# Altium schematic symbol library IC_Interface.SchLib: 26 symbols
Pins are listed as number, name and electrical type; pins without a type are passive.

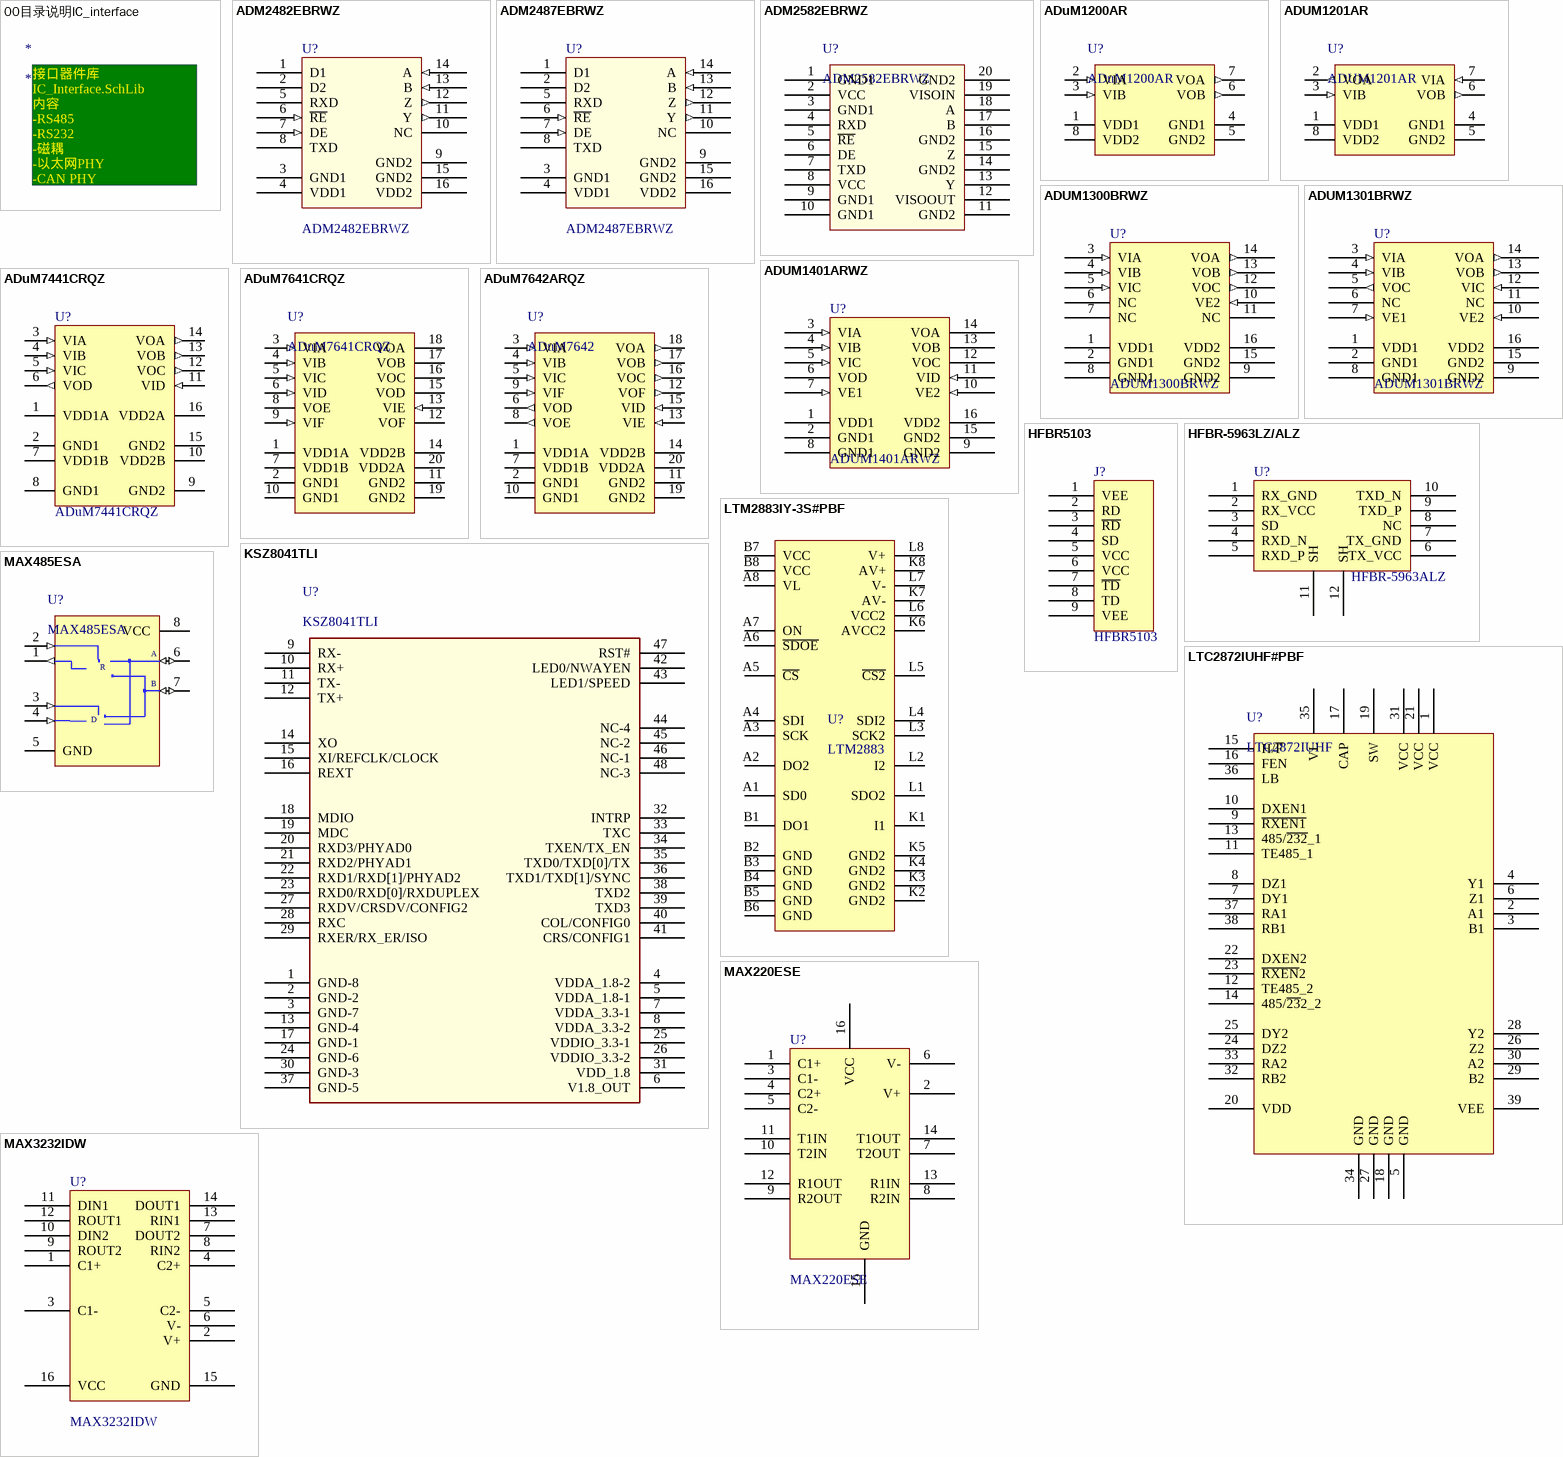
[diagram p0: symbols 00目录说明IC_interface to MAX3232IDW]

## 00目录说明IC_interface
designator *
text: 接口器件库 IC_Interface.SchLib / 内容 / -RS485 / -RS232 / -磁耦 / -以太网PHY / -CAN PHY /

## ADM2482EBRWZ
designator U?
RS485隔离收发器自带电源,速率16Mb; Manufacturer: ADI; Name: RS485收发器; Ordering NO.: ADM2482EBRWZ
footprint SO16/1.27_10.3*7.5 (16-Pin Wide Body Small Outline Integrated Circuit 1.27 mm Pitch, IPC Medium Density)
pins: 1 D1, 2 D2, 3 GND1 (power), 4 VDD1 (power), 5 RXD, 6 ~{RE} (in), 7 DE (in), 8 TXD, 9 GND2 (power), 10 NC, 11 Y (out), 12 Z (out), 13 B (in), 14 A (in), 15 GND2 (power), 16 VDD2 (power)

## ADM2487EBRWZ
designator U?
RS485隔离收发器自带电源,速率500kb; Manufacturer: ADI; Name: RS485收发器; Ordering NO.: ADM2487EBRWZ
footprint SO16/1.27_10.3*7.5 (16-Pin Wide Body Small Outline Integrated Circuit 1.27 mm Pitch, IPC Medium Density)
pins: 1 D1, 2 D2, 3 GND1 (power), 4 VDD1 (power), 5 RXD, 6 ~{RE} (in), 7 DE (in), 8 TXD, 9 GND2 (power), 10 NC, 11 Y (out), 12 Z (out), 13 B (in), 14 A (in), 15 GND2 (power), 16 VDD2 (power)

## ADM2582EBRWZ
designator U?
RS485隔离收发器自带电源,速率16M; Manufacturer: ADI; 物料型号说明: AD公司15KV隔离RS485收发器; Name: RS485收发器; Price: 25.01; 物料替代型号: n/a; Ordering NO.: ADM2582EBRWZ
footprint SO20/1.27_12.8*7.5 (SOIC, 20-Leads, Body 13.0x7.6mm (max), Pitch 1.27mm, IPC Medium Density)
pins: 1 GND1, 2 VCC, 3 GND1, 4 RXD, 5 ~{RE}, 6 DE, 7 TXD, 8 VCC, 9 GND1, 10 GND1, 11 GND2, 12 VISOOUT, 13 Y, 14 GND2, 15 Z, 16 GND2, 17 B, 18 A, 19 VISOIN, 20 GND2

## ADuM1200AR
designator U?
磁偶双发或收; Manufacturer: ADI; Name: 磁耦; Ordering NO.: ADuM1200AR
footprint SO8/1.27_4.9*3.9 (Footprint not found)
pins: 1 VDD1 (power) "Supply Voltage for Isolator Side 1.", 2 VIA (in) "Logic Input A.", 3 VIB (in) "Logic Input B.", 4 GND1 (power) "Ground 1. Ground Reference for Isolator Side 1.", 5 GND2 (power) "Ground 2. Ground Reference for Isolator Side 2.", 6 VOB (out) "Logic Output B.", 7 VOA (out) "Logic Output A.", 8 VDD2 (power) "Supply Voltage for Isolator Side 2."

## ADUM1201AR
designator U?
磁偶1发1收; Manufacturer: ADI; Name: 磁耦; Ordering NO.: ADUM1201AR
footprint SO8/1.27_4.9*3.9 (Footprint not found)
pins: 1 VDD1 (power) "Supply Voltage for Isolator Side 1.", 2 VOA (out) "Logic Output A.", 3 VIB (in) "Logic Input B.", 4 GND1 (power) "Ground 1. Ground Reference for Isolator Side 1.", 5 GND2 (power) "Ground 2. Ground Reference for Isolator Side 2.", 6 VOB (out) "Logic Output B.", 7 VIA (in) "Logic Input A.", 8 VDD2 (power) "Supply Voltage for Isolator Side 2."

## ADUM1300BRWZ
designator U?
Triple-Channel Digital Isolators; Manufacturer: ADI; Name: 磁耦; Ordering NO.: ADUM1300BRWZ
footprint SO16/1.27_10.3*7.5 (16-Pin Wide Body Small Outline Integrated Circuit 1.27 mm Pitch, IPC Medium Density)
pins: 1 VDD1 (power), 2 GND1 (power), 3 VIA (in), 4 VIB (in), 5 VIC (in), 6 NC, 7 NC, 8 GND1 (power), 9 GND2 (power), 10 VE2 (in), 11 NC, 12 VOC (out), 13 VOB (out), 14 VOA (out), 15 GND2 (power), 16 VDD2 (power)

## ADUM1301BRWZ
designator U?
两通道磁耦; Manufacturer: ADI; Name: 磁耦; Ordering NO.: ADUM1301BRWZ
footprint SO16/1.27_10.3*7.5 (16-Pin Wide Body Small Outline Integrated Circuit 1.27 mm Pitch, IPC Medium Density)
pins: 1 VDD1 (power), 2 GND1 (power), 3 VIA (in), 4 VIB (in), 5 VOC (out), 6 NC, 7 VE1 (in), 8 GND1 (power), 9 GND2 (power), 10 VE2 (in), 11 NC, 12 VIC (in), 13 VOB (out), 14 VOA (out), 15 GND2 (power), 16 VDD2 (power)

## ADUM1401ARWZ
designator U?
Quad-Channel Digital Isolators; Manufacturer: ADI; Name: 磁耦; Ordering NO.: ADUM1401ARWZ
footprint SO16/1.27_10.3*7.5 (16-Pin Wide Body Small Outline Integrated Circuit 1.27 mm Pitch, IPC Medium Density)
pins: 1 VDD1 (power), 2 GND1 (power), 3 VIA (in), 4 VIB (in), 5 VIC (in), 6 VOD (hiz), 7 VE1 (in), 8 GND1 (power), 9 GND2 (power), 10 VE2 (in), 11 VID (in), 12 VOC (hiz), 13 VOB (hiz), 14 VOA (oe), 15 GND2 (power), 16 VDD2 (power)

## ADuM7441CRQZ
designator U?
Quad-Channel Digital Isolators, 1kV RMS, 3 Input 1 Output, 25Mbps; Manufacturer: ADI; Name: 磁耦; Ordering NO.: ADuM7441CRQZ
footprint SSOP16/0.635_4.9*3.9 (SSOP; 16 Leads; Body Width 3.9 mm; Pitch 0.635 mm)
pins: 1 VDD1A (power), 2 GND1 (power), 3 VIA (in), 4 VIB (in), 5 VIC (in), 6 VOD (out), 7 VDD1B (power), 8 GND1 (power), 9 GND2 (power), 10 VDD2B (power), 11 VID (in), 12 VOC (out), 13 VOB (out), 14 VOA (out), 15 GND2 (power), 16 VDD2A (power)

## ADuM7641CRQZ
designator U?
1 kV RMS六通道数字隔离器; Manufacturer: ADI; NAME: 磁耦; Ordering NO.: ADuM7641CRQZ
footprint SOP20/0.635_8.66*3.9 (SOP, 20-Leads, Body 8.66x3.9mm, Pitch 0.635mm, IPC Medium Density)
pins: 1 VDD1A (power) "Supply Voltage A for Isolator Side 1 (3.0 V to 5.5 V). Pin 1 must be connected externally to Pin 7. Connect a 0.01 uF to 0.1 uF between VDD1A (Pin 1) and GND1 (Pin 2).", 2 GND1 (power) "Ground Reference for Isolator Side 1. Pin 2 and Pin 10 are internally connected, and connecting both pins to the PCB ground plane is recommended.", 3 VIA (in) "Logic Input A.", 4 VIB (in) "Logic Input B.", 5 VIC (in) "Logic Input C.", 6 VID (in) "Logic Input D.", 7 VDD1B (power) "Supply Voltage B for Isolator Side 1 (3.0 V to 5.5 V). Pin 7 must be connected externally to Pin 1. Connect a 0.01 uF to 0.1 uF between VDD1B (Pin 7) and GND1 (Pin 10).", 8 VOE (hiz) "Logic Output E.", 9 VIF (in) "Logic Input F.", 10 GND1 (power) "Ground Reference for Isolator Side 1. Pin 2 and Pin 10 are internally connected, and connecting both pins to the PCB ground plane is recommended.", 11 GND2 (power) "Ground Reference for Isolator Side 2. Pin 11 and Pin 19 are internally connected, and connecting both pins to the PCB ground plane is recommended.", 12 VOF (hiz) "Logic Output F.", 13 VIE (in) "Logic Input E.", 14 VDD2B (power) "Supply Voltage B for Isolator Side 2 (3.0 V to 5.5 V). Pin 14 must be connected externally to Pin 20. Connect a 0.01 uF to 0.1 uF between VDD2B (Pin 14) and GND2 (Pin 11).", 15 VOD (hiz) "Logic Output D.", 16 VOC (hiz) "Logic Output C.", 17 VOB (hiz) "Logic Output B.", 18 VOA (hiz) "Logic Output A.", 19 GND2 (power) "Ground Reference for Isolator Side 2. Pin 11 and Pin 19 are internally connected, and connecting both pins to the PCB ground plane is recommended.", 20 VDD2A (power) "Supply Voltage A for Isolator Side 2 (3.0 V to 5.5 V). Pin 20 must be connected externally to Pin 14. Connect a 0.01 uF to 0.1 uF between VDD2A (Pin 20) and GND2 (Pin 19)."

## ADuM7642ARQZ
designator U?, comment ADuM7642
1 kV RMS 六通道数字隔离器, 4输出, 2输入, 速率1Mbps; Manufacturer: ADI; Name: 磁耦; Ordering NO.: ADuM7642ARQZ
footprint SOP20/0.635_8.66*3.9 (SOP, 20-Leads, Body 8.66x3.9mm, Pitch 0.635mm, IPC Medium Density)
pins: 1 VDD1A (power) "Supply Voltage A for Isolator Side 1 (3.0 V to 5.5 V). Pin 1 must be connected externally to Pin 7. Connect a 0.01 uF to 0.1 uF between VDD1A (Pin 1) and GND1 (Pin 2).", 2 GND1 (power) "Ground Reference for Isolator Side 1. Pin 2 and Pin 10 are internally connected, and connecting both pins to the PCB ground plane is recommended.", 3 VIA (in) "Logic Input A.", 4 VIB (in) "Logic Input B.", 5 VIC (in) "Logic Input C.", 6 VOD (out) "Logic Input D.", 7 VDD1B (power) "Supply Voltage B for Isolator Side 1 (3.0 V to 5.5 V). Pin 7 must be connected externally to Pin 1. Connect a 0.01 uF to 0.1 uF between VDD1B (Pin 7) and GND1 (Pin 10).", 8 VOE (out) "Logic Output E.", 9 VIF (in) "Logic Input F.", 10 GND1 (power) "Ground Reference for Isolator Side 1. Pin 2 and Pin 10 are internally connected, and connecting both pins to the PCB ground plane is recommended.", 11 GND2 (power) "Ground Reference for Isolator Side 2. Pin 11 and Pin 19 are internally connected, and connecting both pins to the PCB ground plane is recommended.", 12 VOF (out) "Logic Output F.", 13 VIE (in) "Logic Input E.", 14 VDD2B (power) "Supply Voltage B for Isolator Side 2 (3.0 V to 5.5 V). Pin 14 must be connected externally to Pin 20. Connect a 0.01 uF to 0.1 uF between VDD2B (Pin 14) and GND2 (Pin 11).", 15 VID (in) "Logic Output D.", 16 VOC (out) "Logic Output C.", 17 VOB (out) "Logic Output B.", 18 VOA (out) "Logic Output A.", 19 GND2 (power) "Ground Reference for Isolator Side 2. Pin 11 and Pin 19 are internally connected, and connecting both pins to the PCB ground plane is recommended.", 20 VDD2A (power) "Supply Voltage A for Isolator Side 2 (3.0 V to 5.5 V). Pin 20 must be connected externally to Pin 14. Connect a 0.01 uF to 0.1 uF between VDD2A (Pin 20) and GND2 (Pin 19)."

## HFBR5103
designator J?
FDDI, 100 Mbps ATM, and  Fast Ethernet Transceivers  in Low Cost; Manufacturer: Hewlett Packard; Name: 百兆以太网收发器; Ordering NO.: HFBR5103
footprint SIP9/2.54 (9 Leads,Pitch=2.54mm,焊盘: 外径1.28mm,孔径0.8mm)
pins: 1 VEE, 2 RD, 3 ~{RD}, 4 SD, 5 VCC (power), 6 VCC (power), 7 ~{TD} (power), 8 TD, 9 VEE

## HFBR-5963LZ/ALZ
designator U?, comment HFBR-5963ALZ
Multimode Small Form Factor Transceiver with LC Connector, -40 °C to +85 °C, 1300 nm InGaAsP LED; Manufacturer: Avago; 物料型号说明: 工业温度; Ordering NO.: HFBR-5963LZ/ALZ; Name: 百兆光模块（LC接口）; 物料替代型号: HFBR-5963ALZ; Price: 100
footprint HFBR-5963LZ/ALZ (pitch=70mil)
pins: 1 RX_GND, 2 RX_VCC, 3 SD, 4 RXD_N, 5 RXD_P, 6 TX_VCC, 7 TX_GND, 8 NC, 9 TXD_P, 10 TXD_N, 11 SH, 12 SH

## KSZ8041TLI
designator U?
10Base-T/100Base-TX/100Base-FX  Physical Layer Transceiver; Manufacturer: MICREL; Name: PHY; Ordering NO.: KSZ8041TLI
footprint TQFP48/0.5_7*7 (TSQFP, 48-Leads, Body 9.0x9.0mm (max), Pitch 0.50mm, IPC Medium Density)
pins: 1 GND-8, 2 GND-2, 3 GND-7, 4 VDDA_1.8-2, 5 VDDA_1.8-1, 6 V1.8_OUT, 7 VDDA_3.3-1, 8 VDDA_3.3-2, 9 RX-, 10 RX+, 11 TX-, 12 TX+, 13 GND-4, 14 XO, 15 XI/REFCLK/CLOCK, 16 REXT, 17 GND-1, 18 MDIO, 19 MDC, 20 RXD3/PHYAD0, 21 RXD2/PHYAD1, 22 RXD1/RXD[1]/PHYAD2, 23 RXD0/RXD[0]/RXDUPLEX, 24 GND-6, 25 VDDIO_3.3-1, 26 VDDIO_3.3-2, 27 RXDV/CRSDV/CONFIG2, 28 RXC, 29 RXER/RX_ER/ISO, 30 GND-3, 31 VDD_1.8, 32 INTRP, 33 TXC, 34 TXEN/TX_EN, 35 TXD0/TXD[0]/TX, 36 TXD1/TXD[1]/SYNC, 37 GND-5, 38 TXD2, 39 TXD3, 40 COL/CONFIG0, 41 CRS/CONFIG1, 42 LED0/NWAYEN, 43 LED1/SPEED, 44 NC-4, 45 NC-2, 46 NC-1, 47 RST#, 48 NC-3

## LTC2872IUHF#PBF
designator U?, comment LTC2872IUHF
RS232/RS485 Dual  Multiprotocol Transceiver  with Integrated Termination; Manufacturer: Linear; Name: RS232/RS485双通道多协议收发器; Ordering NO.: LTC2872IUHF#PBF
footprint QFN38/0.5_5*7 (Footprint not found)
pins: 1 VCC, 2 A1, 3 B1, 4 Y1, 5 GND, 6 Z1, 7 DY1, 8 DZ1, 9 ~{RXEN1}, 10 DXEN1, 11 TE485_1, 12 TE485_2, 13 485/~{232}_1, 14 485/~{23}2_2, 15 H/~{F}, 16 FEN, 17 CAP, 18 GND, 19 SW, 20 VDD, 21 VCC, 22 DXEN2, 23 ~{RXEN}2, 24 DZ2, 25 DY2, 26 Z2, 27 GND, 28 Y2, 29 B2, 30 A2, 31 VCC, 32 RB2, 33 RA2, 34 GND, 35 VL, 36 LB, 37 RA1, 38 RB1, 39 VEE

## LTM2883IY-3S#PBF
designator U?, comment LTM2883
SPI/Digital or I2C μModule  Isolator with Adjustable ±12.5V  and 5V Regulated Power,Input 3V to 3.6V; Manufacturer: Linear; Ordering NO.: LTM2883IY-3S#PBF; Name: 磁耦隔离器
footprint BGA32/1.27_11*8 (BGA,32 Leads,15x11.25mm)
pins: A1 SD0, A2 DO2, A3 SCK, A4 SDI, A5 ~{CS}, A6 ~{SDOE}, A7 ON, A8 VL, B1 DO1, B2 GND, B3 GND, B4 GND, B5 GND, B6 GND, B7 VCC, B8 VCC, K1 I1, K2 GND2, K3 GND2, K4 GND2, K5 GND2, K6 AVCC2, K7 AV-, K8 AV+, L1 SDO2, L2 I2, L3 SCK2, L4 SDI2, L5 ~{CS2}, L6 VCC2, L7 V-, L8 V+

## MAX220ESE
designator U?
RS232收发器2发2收; Manufacturer: Maxim; Price: 3; Ordering NO.: MAX220ESE; Name: RS232收发器
footprint SOIC-16 (SOIC-16封装only)
pins: 1 C1+, 2 V+, 3 C1-, 4 C2+, 5 C2-, 6 V-, 7 T2OUT, 8 R2IN, 9 R2OUT, 10 T2IN, 11 T1IN, 12 R1OUT, 13 R1IN, 14 T1OUT, 15 GND (power), 16 VCC (power)

## MAX485ESA
designator U?
RS485 Transceiver 5V; Manufacturer: Maxim; Name: 485驱动芯片; 物料替代型号: MAX485; Price: 2; Ordering NO.: MAX485ESA
footprint SO8/1.27_4.9*3.9 (SOIC, 8-Leads, Body 4.9x3.9mm, Pitch 1.27mm,)
pins: 1 RO (out), 2 ~{RE} (in), 3 DE (in), 4 DI (in), 5 GND (power), 6 A (io), 7 B (io), 8 VCC (power)
text: R; D

## MAX3232IDW
designator U?
3V-5.5V MULTICHANNEL RS-232 LINE DRIVER/RECEIVER WITH 15KV ESD PROTECTION; Manufacturer: TI; Name: RS232收发器; Price: 3; Ordering NO.: MAX3232IDW
footprint SO16/1.27_10.3*7.5 (SOIC_W,16-Pin Wide Body Small Outline Integrated Circuit 1.27 mm Pitch, IPC Medium Density)
pins: 1 C1+, 2 V+, 3 C1-, 4 C2+, 5 C2-, 6 V-, 7 DOUT2, 8 RIN2, 9 ROUT2, 10 DIN2, 11 DIN1, 12 ROUT1, 13 RIN1, 14 DOUT1, 15 GND (power), 16 VCC (power)

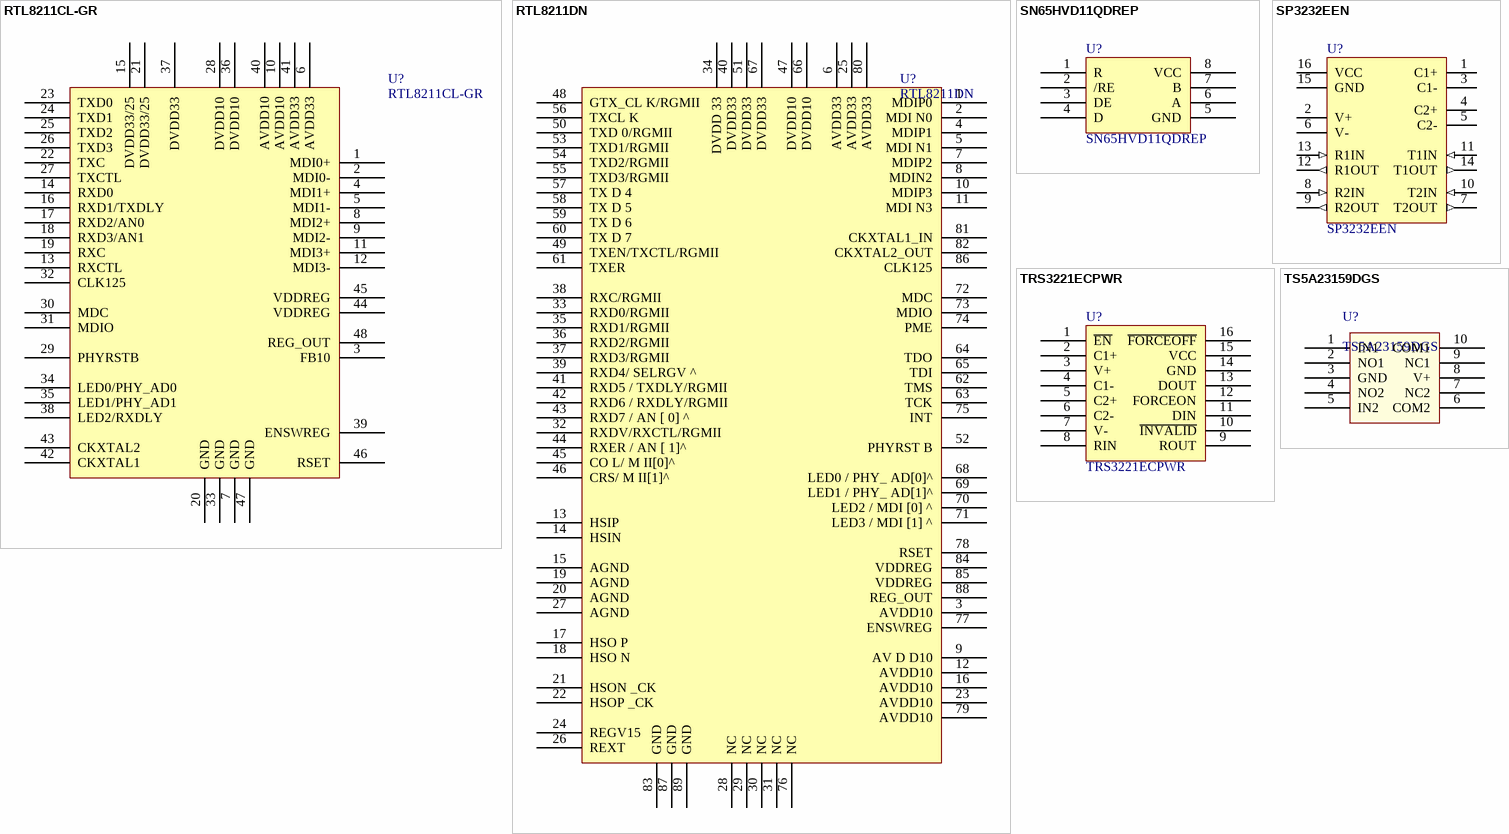
[diagram p1: symbols RTL8211CL-GR to TS5A23159DGS]

## RTL8211CL-GR
designator U?
1000TX的PHY; Manufacturer: RealTek; 物料型号说明: 千兆电口PHY LQFP48; Name: 千兆以太网PHY; tips: 千兆以太网PHY1000BASE-TX; Price_Date: 2011-07; Ordering NO.: RTL8211CL-GR; 物料替代型号: n/a; Price: 15
footprint LQFP48/0.5 (Footprint not found)
pins: 1 MDI0+, 2 MDI0-, 3 FB10, 4 MDI1+, 5 MDI1-, 6 AVDD33, 7 GND, 8 MDI2+, 9 MDI2-, 10 AVDD10, 11 MDI3+, 12 MDI3-, 13 RXCTL, 14 RXD0, 15 DVDD33/25, 16 RXD1/TXDLY, 17 RXD2/AN0, 18 RXD3/AN1, 19 RXC, 20 GND, 21 DVDD33/25, 22 TXC, 23 TXD0, 24 TXD1, 25 TXD2, 26 TXD3, 27 TXCTL, 28 DVDD10, 29 PHYRSTB, 30 MDC, 31 MDIO, 32 CLK125, 33 GND, 34 LED0/PHY_AD0, 35 LED1/PHY_AD1, 36 DVDD10, 37 DVDD33, 38 LED2/RXDLY, 39 ENSWREG, 40 AVDD10, 41 AVDD33, 42 CKXTAL1, 43 CKXTAL2, 44 VDDREG, 45 VDDREG, 46 RSET, 47 GND, 48 REG_OUT

## RTL8211DN
designator U?
光口+电口PHY; Manufacturer: RealTek; Name: 网口; Price: 15; Price_Date: 2011-07; Ordering NO.: RTL8211DN
footprint QFN-88 (0.4mm间距)
pins: 1 MDIP0, 2 MDI N0, 3 AVDD10, 4 MDIP1, 5 MDI N1, 6 AVDD33, 7 MDIP2, 8 MDIN2, 9 AV D D10, 10 MDIP3, 11 MDI N3, 12 AVDD10, 13 HSIP, 14 HSIN, 15 AGND, 16 AVDD10, 17 HSO P, 18 HSO N, 19 AGND, 20 AGND, 21 HSON _CK, 22 HSOP _CK, 23 AVDD10, 24 REGV15, 25 AVDD33, 26 REXT, 27 AGND, 28 NC, 29 NC, 30 NC, 31 NC, 32 RXDV/RXCTL/RGMII, 33 RXD0/RGMII, 34 DVDD 33, 35 RXD1/RGMII, 36 RXD2/RGMII, 37 RXD3/RGMII, 38 RXC/RGMII, 39 RXD4/ SELRGV ^, 40 DVDD33, 41 RXD5 / TXDLY/RGMII, 42 RXD6 / RXDLY/RGMII, 43 RXD7 / AN [ 0] ^, 44 RXER / AN [ 1]^, 45 CO L/ M II[0]^, 46 CRS/ M II[1]^, 47 DVDD10, 48 GTX_CL K/RGMII, 49 TXEN/TXCTL/RGMII, 50 TXD 0/RGMII, 51 DVDD33, 52 PHYRST B, 53 TXD1/RGMII, 54 TXD2/RGMII, 55 TXD3/RGMII, 56 TXCL K, 57 TX D 4, 58 TX D 5, 59 TX D 6, 60 TX D 7, 61 TXER, 62 TMS, 63 TCK, 64 TDO, 65 TDI, 66 DVDD10, 67 DVDD33, 68 LED0 / PHY_ AD[0]^, 69 LED1 / PHY_ AD[1]^, 70 LED2 / MDI [0] ^, 71 LED3 / MDI [1] ^, 72 MDC, 73 MDIO, 74 PME, 75 INT, 76 NC, 77 ENSWREG, 78 RSET, 79 AVDD10, 80 AVDD33, 81 CKXTAL1_IN, 82 CKXTAL2_OUT, 83 GND, 84 VDDREG, 85 VDDREG, 86 CLK125, 87 GND, 88 REG_OUT, 89 GND

## SN65HVD11QDREP
designator U?
10MbpsRS485收发器; Manufacturer: TI; 物料型号说明: 工业温度SO-8封装; Price: 10; Name: RS485收发器; 物料替代型号: n/a; Ordering NO.: SN65HVD11QDREP
footprint SO8/1.27_4.9*3.9 (SOIC, 8-Leads, Body 4.9x3.9mm, Pitch 1.27mm,)
pins: 1 R, 2 /RE (power), 3 DE, 4 D (power), 5 GND, 6 A, 7 B, 8 VCC

## SP3232EEN
designator U?
True +3.0V to +5.5V RS-232 Transceivers; Manufacturer: EXAR; Name: RS232收发器; Ordering NO.: SP3232EEN
footprint SO16/1.27_9.9*3.9
pins: 1 C1+ (power), 2 V+ (power), 3 C1- (power), 4 C2+ (power), 5 C2- (power), 6 V- (power), 7 T2OUT (out), 8 R2IN (in), 9 R2OUT (out), 10 T2IN (in), 11 T1IN (in), 12 R1OUT (out), 13 R1IN (in), 14 T1OUT (out), 15 GND (power), 16 VCC (power)

## TRS3221ECPWR
designator U?
RS232收发器1路ESD15KV; Manufacturer: TI; 物料型号说明: 商业温度2000/盘TSSOP16; 物料替代型号: TRS3221EIPWR工业温度; tips: 单路适合做console还有很多控制使能ESD15KV很强大; Ordering NO.: TRS3221ECPWR; Name: RS232收发器; Price: 5.01
footprint TSSOP16/0.65_5.0*4.4 (TSSOP, 16-Leads, Body 5.0x4.4mm , Pitch 0.65mm, IPC Medium Density)
pins: 1 ~{EN}, 2 C1+, 3 V+, 4 C1-, 5 C2+, 6 C2-, 7 V-, 8 RIN, 9 ROUT, 10 ~{INVALID}, 11 DIN, 12 FORCEON, 13 DOUT, 14 GND, 15 VCC, 16 ~{FORCEOFF}

## TS5A23159DGS
designator U?
5-V/3.3-V 2-CHANNEL 2:1 MULTIPLEXER/DEMULTIPLEXER; Manufacturer: TI; Name: 5-V/3.3-V 2-CHANNEL 2:1 MULTIPLEXER/DEMULTIPLEXER; Ordering NO.: TS5A23159DGS
footprint MSOP10/0.5_3*3 (MSOP,8 PIN,Pitch 0.65mm,Body 3mmX3mm)
pins: 1 IN1, 2 NO1, 3 GND, 4 NO2, 5 IN2, 6 COM2, 7 NC2, 8 V+, 9 NC1, 10 COM1